# Altium footprint library smc-diodes-packages.PcbLib: 2 footprints
Each footprint in its own frame and in the unit in brackets; x right, y up, seen from the top. Pads: shape width x height; smd on the part's side, far side on the other; paste and mask are expansions set on the pad; w line width, h text height; cw(c..) or ccw(c..) is an arc to the next point about the centre after c.
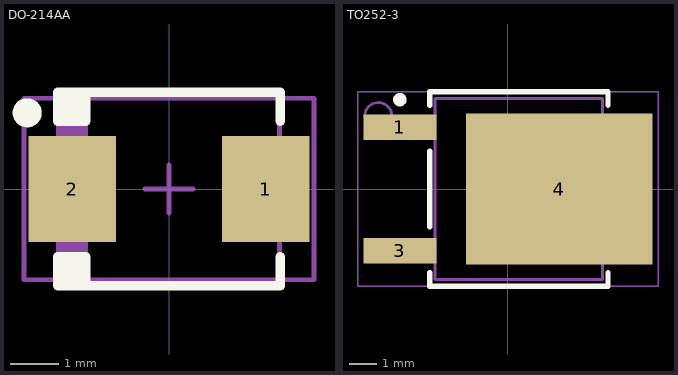
[diagram p0: the footprints below, top view; thin cyan lines are the x and y axes]

## DO-214AA [mm] "Molded Diode, 2-Leads, Body 4.3x3.6mm, IPC High Density"
height 2.4
pads (2):
  rect 1.8x2.2 smd: 1(2,0) 2(-2,0)
Top Overlay:
  circle w0.3: c-2.93,1.575 r0.15
  rectangle: -2.3,1.4 -1.735,2
  rectangle: -2.3,-2 -1.735,-1.4
  lines w0.2: -1.725,-2 -1.725,-1.4 -2.3,-1.4 -2.3,-2 2.3,-2 2.3,-1.405 ; -1.725,2 -1.725,1.4 -2.3,1.4 -2.3,2 2.3,2 2.3,1.405
Mechanical 13:
  rectangle: -2.285,-1.97 -1.67,1.97
  lines w0.1: -0.5,0 0.5,0 ; 0,-0.5 0,0.5 ; -2.285,-1.97 2.285,-1.97 2.285,1.97 -2.285,1.97 -2.285,-1.97
Mechanical 15:
  region: -2.1,-0.7 -2.8,0 -2.1,0.7
  lines w0.1: -3,-1.875 3,-1.875 3,1.875 -3,1.875 -3,-1.875
  text ".Designator" at -0.875,-0.175 h0.5
3D body: height 2.3, standoff 0, extent -2.7,-1.8 2.7,1.8

## TO252-3 [mm] "D-PAK, 3-Pads, Body 6.20x6.72mm (max), IPC Medium Density"
height 2.38
pads (3):
  rect 2.7x0.95 smd: 1(-4,2.28) 3(-4,-2.28)
  rect 6.9x5.6 smd: 4(1.9,0)
Top Overlay:
  circle w0.25: c-4,3.305 r0.125
  lines w0.2: -2.9,-3.1 -2.9,-3.6 3.7,-3.6 3.7,-3.1 ; -2.9,-1.4 -2.9,1.4 ; -2.9,3.1 -2.9,3.6 3.7,3.6 3.7,3.1
Mechanical 13:
  lines w0.1: -0.5,0 0.5,0 ; 0,-0.5 0,0.5 ; -2.7,-3.35 3.5,-3.35 3.5,3.35 -2.7,3.35 -2.7,-3.35
Mechanical 15:
  circle w0.1: c-4.8,2.7 r0.5
  lines w0.05: -5.55,-3.6 5.55,-3.6 5.55,3.6 -5.55,3.6 -5.55,-3.6
  text ".Designator" at 0.2,-2.125 h0.5
3D body: height 2.39, standoff -0.02, extent -4.938,-3.27 5,3.27